# Altium footprint library LL-35.PcbLib: 1 footprints
Each footprint in its own frame and in the unit in brackets; x right, y up, seen from the top. Pads: shape width x height; smd on the part's side, far side on the other; paste and mask are expansions set on the pad; w line width, h text height; cw(c..) or ccw(c..) is an arc to the next point about the centre after c.
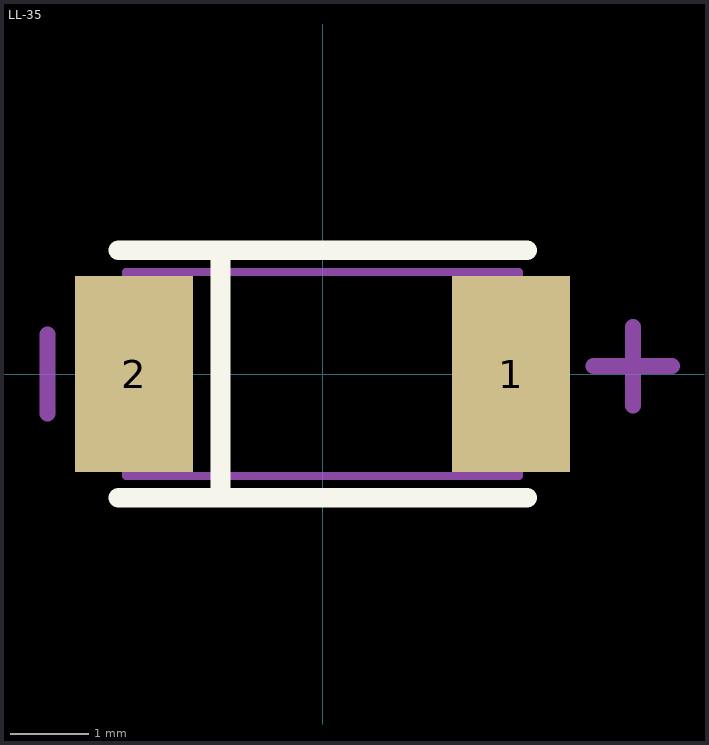
[diagram p0: the footprint, top view; thin cyan lines are the x and y axes]

## LL-35 [mm]
pads (2):
  rect 1.5x2.5 smd: 1(2.4,0) 2(-2.4,0)
Top Overlay:
  lines w0.254: -2.6,-1.575 2.6,-1.575 ; -2.6,1.575 2.6,1.575 ; -1.3,-1.575 -1.3,1.575
Mechanical 13:
  lines w0.1: -2.5,-1.3 -2.5,1.3 2.5,1.3 2.5,-1.3 -2.5,-1.3
Mechanical 15:
  lines w0.203: -3.5,-0.5 -3.5,0.5 ; 3.45,0.1 4.45,0.1 ; 3.95,-0.4 3.95,0.6